# Altium footprint library COMPONENTS.PcbLib: 23 footprints (part 2 of 2)
Each footprint in its own frame and in the unit in brackets; x right, y up, seen from the top. Pads: shape width x height; smd on the part's side, far side on the other; paste and mask are expansions set on the pad; w line width, h text height; cw(c..) or ccw(c..) is an arc to the next point about the centre after c.
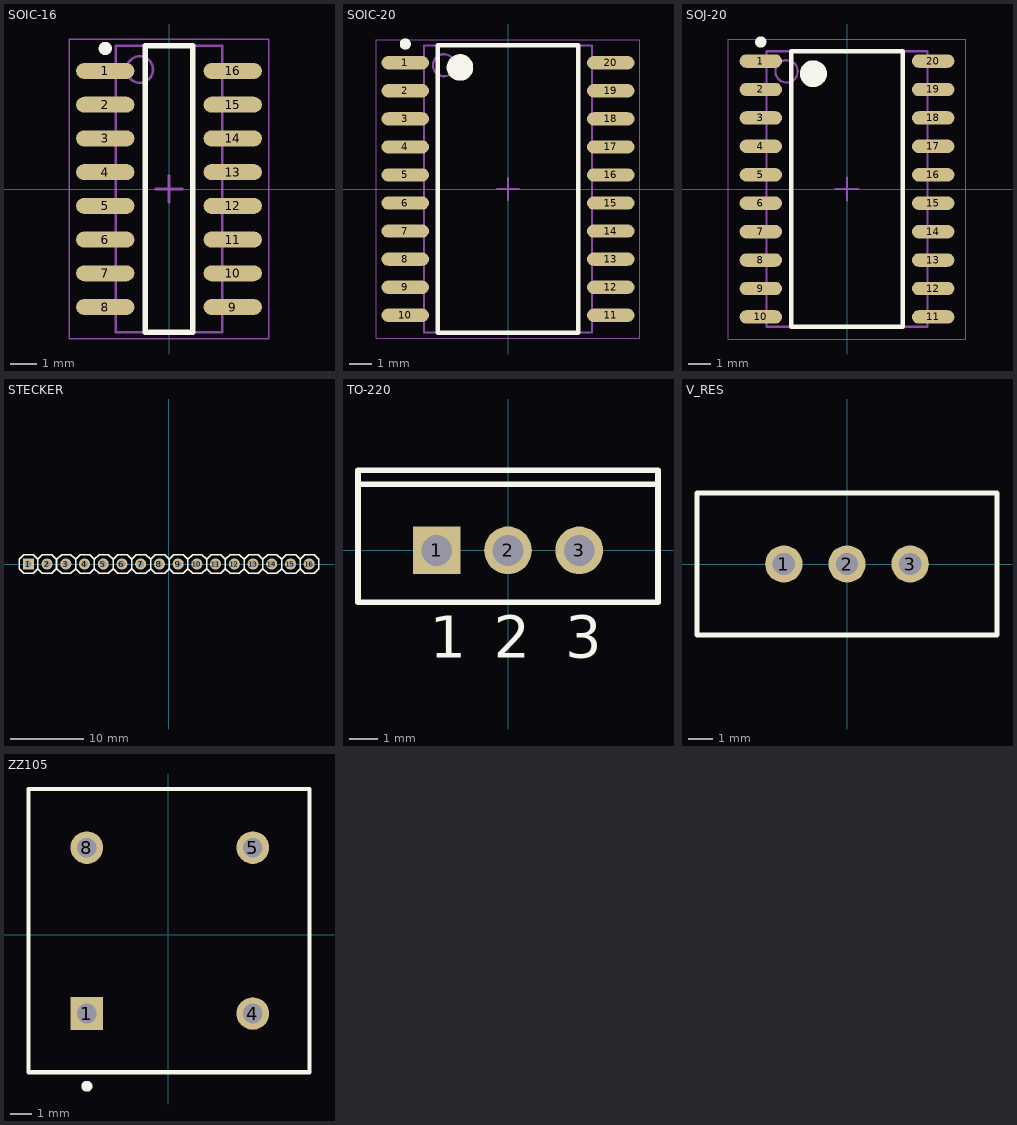
[diagram p1: the footprints below, top view; thin cyan lines are the x and y axes]

## SOIC-16 [mm] "SOIC, 16-Leads, Body 10,40x3,90mm, Pitch 1,27mm, IPC Medium Density"
height 1.75
pads (16):
  oval 2.2x0.6 smd: 1(-2.4,4.445) 2(-2.4,3.175) 3(-2.4,1.905) 4(-2.4,0.635) 5(-2.4,-0.635) 6(-2.4,-1.905) 7(-2.4,-3.175) 8(-2.4,-4.445) 9(2.4,-4.445) 10(2.4,-3.175) 11(2.4,-1.905) 12(2.4,-0.635) 13(2.4,0.635) 14(2.4,1.905) 15(2.4,3.175) 16(2.4,4.445)
Top Overlay:
  circle w0.25: c-2.4,5.295 r0.125
  lines w0.2: -0.9,-5.4 0.9,-5.4 0.9,5.4 -0.9,5.4 -0.9,-5.4
Mechanical 13:
  circle w0.1: c-1.1,4.5 r0.5
  lines w0.1: -2,-5.4 2,-5.4 2,5.4 -2,5.4 -2,-5.4
Mechanical 15:
  lines w0.05: -3.75,-5.65 3.75,-5.65 3.75,5.65 -3.75,5.65 -3.75,-5.65
  lines w0.1: -0.5,0 0.5,0 ; 0,-0.5 0,0.5
3D body: height 1.75, standoff 0.25, extent -2,-5.4 2,5.4

## SOIC-20 [mm] "SOIC, 20-Leads, Body 12,80x7,50mm, Pitch 1,27mm, IPC Medium Density"
height 2.65
pads (20):
  oval 2.15x0.6 smd: 1(-4.65,5.715) 2(-4.65,4.445) 3(-4.65,3.175) 4(-4.65,1.905) 5(-4.65,0.635) 6(-4.65,-0.635) 7(-4.65,-1.905) 8(-4.65,-3.175) 9(-4.65,-4.445) 10(-4.65,-5.715) 11(4.65,-5.715) 12(4.65,-4.445) 13(4.65,-3.175) 14(4.65,-1.905) 15(4.65,-0.635) 16(4.65,0.635) 17(4.65,1.905) 18(4.65,3.175) 19(4.65,4.445) 20(4.65,5.715)
Top Overlay:
  circle w0.25: c-4.65,6.565 r0.125
  circle w0.6: c-2.175,5.5 r0.3
  lines w0.2: -3.175,-6.5 -3.175,6.5 3.175,6.5 3.175,-6.5 -3.175,-6.5
Mechanical 13:
  circle w0.1: c-2.9,5.6 r0.5
  lines w0.1: -3.8,-6.5 -3.8,6.5 3.8,6.5 3.8,-6.5 -3.8,-6.5
Mechanical 15:
  lines w0.05: -5.975,-6.75 -5.975,6.75 5.975,6.75 5.975,-6.75 -5.975,-6.75
  lines w0.1: -0.5,0 0.5,0 ; 0,-0.5 0,0.5
3D body: height 2.65, standoff 0.25, extent -3.8,-6.5 3.8,6.5

## SOJ-20 [mm] "SOJ, 20-Leads, Body 12,31x8,16mm, Pitch 1,27mm, IPC Low Density"
height 3.36
pads (20):
  oval 1.9x0.6 smd: 1(-3.85,5.715) 2(-3.85,4.445) 3(-3.85,3.175) 4(-3.85,1.905) 5(-3.85,0.635) 6(-3.85,-0.635) 7(-3.85,-1.905) 8(-3.85,-3.175) 9(-3.85,-4.445) 10(-3.85,-5.715) 11(3.85,-5.715) 12(3.85,-4.445) 13(3.85,-3.175) 14(3.85,-1.905) 15(3.85,-0.635) 16(3.85,0.635) 17(3.85,1.905) 18(3.85,3.175) 19(3.85,4.445) 20(3.85,5.715)
Top Overlay:
  circle w0.6: c-1.5,5.15 r0.3
  circle w0.25: c-3.85,6.565 r0.125
  lines w0.2: -2.5,-6.15 2.5,-6.15 2.5,6.15 -2.5,6.15 -2.5,-6.15
Mechanical 13:
  circle w0.1: c-2.7,5.255 r0.5
  lines w0.1: -3.6,-6.155 3.6,-6.155 3.6,6.155 -3.6,6.155 -3.6,-6.155
Mechanical 15:
  lines w0.05: -5.3,-6.7 5.3,-6.7 5.3,6.7 -5.3,6.7 -5.3,-6.7
  lines w0.1: -0.5,0 0.5,0 ; 0,-0.5 0,0.5
3D body: height 3.36, standoff 0.64, extent -3.6,-6.155 3.6,6.155

## STECKER [mm] "DIP; 40 Leads; Row Spacing 15.24 mm; Pitch 2.54 mm"
height 5.59
pads (16):
  rect 1.5x1.5 hole 0.9: 1(-19.05,0)
  round 1.5 hole 0.9: 2(-16.51,0) 3(-13.97,0) 4(-11.43,0) 5(-8.89,0) 6(-6.35,0) 7(-3.81,0) 8(-1.27,0) 9(1.27,0) 10(3.81,0) 11(6.35,0) 12(8.89,0) 13(11.43,0) 14(13.97,0) 15(16.51,0) 16(19.05,0)
Top Overlay:
  lines w0.2: -17.78,-0.635 -18.415,-1.27 -19.685,-1.27 -20.32,-0.635 -20.32,0.635 -19.685,1.27 -19.621,1.27 -18.415,1.27 -17.78,0.635 ; -17.78,-0.635 -17.78,0.635 ; -17.78,-0.635 -17.145,-1.27 -15.875,-1.27 -15.24,-0.635 -15.24,0.635 -15.875,1.27 -17.081,1.27 -17.145,1.27 -17.78,0.635 ; -17.78,-0.635 -17.78,0.635 ; -12.636,-0.635 -12.636,0.635 ; -12.636,-0.635 -12.002,-1.27 -10.731,-1.27 -10.096,-0.635 ; -12.636,-0.635 -13.271,-1.27 -14.541,-1.27 -15.176,-0.635 -15.176,0.635 -14.541,1.27 -14.478,1.27 -13.271,1.27 -12.636,0.635 ; -12.636,-0.635 -12.636,0.635 ; -12.636,0.635 -12.002,1.27 -11.938,1.27 -10.731,1.27 -10.096,0.635 ; -10.096,-0.635 -10.096,0.635 ; -10.096,-0.635 -9.461,-1.27 -8.191,-1.27 -7.556,-0.635 ; -10.096,-0.635 -10.096,0.635 ; -10.096,0.635 -9.461,1.27 -9.398,1.27 -8.191,1.27 -7.556,0.635 ; -7.556,-0.635 -7.556,0.635 ; -7.556,-0.635 -6.921,-1.27 -5.651,-1.27 -5.016,-0.635 ; -7.556,-0.635 -7.556,0.635 ; -7.556,0.635 -6.921,1.27 -6.858,1.27 -5.651,1.27 -5.016,0.635 ; -5.016,-0.635 -5.016,0.635 ; -5.016,-0.635 -4.381,-1.27 -3.111,-1.27 -2.476,-0.635 ; -5.016,-0.635 -5.016,0.635 ; -5.016,0.635 -4.381,1.27 -4.318,1.27 -3.111,1.27 -2.476,0.635 ; -2.476,-0.635 -2.476,0.635 ; -2.476,-0.635 -1.841,-1.27 -0.572,-1.27 0.064,-0.635 ; -2.476,-0.635 -2.476,0.635 ; -2.476,0.635 -1.841,1.27 -1.778,1.27 -0.572,1.27 0.064,0.635 ; 0.064,-0.635 0.064,0.635 ; 0.064,-0.635 0.699,-1.27 1.968,-1.27 2.603,-0.635 ; 0.064,-0.635 0.064,0.635 ; 0.064,0.635 0.699,1.27 0.762,1.27 1.968,1.27 2.603,0.635 ; 2.603,-0.635 2.603,0.635 ; 2.603,-0.635 3.238,-1.27 4.508,-1.27 5.143,-0.635 ; 2.603,-0.635 2.603,0.635 ; 2.603,0.635 3.238,1.27 3.302,1.27 4.508,1.27 5.143,0.635 ; 5.143,-0.635 5.143,0.635 ; 5.143,-0.635 5.779,-1.27 7.048,-1.27 7.683,-0.635 ; 5.143,-0.635 5.143,0.635 ; 5.143,0.635 5.779,1.27 5.842,1.27 7.048,1.27 7.683,0.635 ; 7.683,-0.635 7.683,0.635 ; 7.683,-0.635 8.319,-1.27 9.588,-1.27 10.223,-0.635 ; 7.683,-0.635 7.683,0.635 ; 7.683,0.635 8.319,1.27 8.382,1.27 9.588,1.27 10.223,0.635 ; 10.223,-0.635 10.223,0.635 ; 10.223,-0.635 10.858,-1.27 12.128,-1.27 12.763,-0.635 ; 10.223,-0.635 10.223,0.635 ; 10.223,0.635 10.858,1.27 10.922,1.27 12.128,1.27 12.763,0.635 ; 12.763,-0.635 12.763,0.635 ; 12.763,-0.635 13.399,-1.27 14.668,-1.27 15.303,-0.635 ; 12.763,-0.635 12.763,0.635 ; 12.763,0.635 13.399,1.27 13.462,1.27 14.668,1.27 15.303,0.635 ; 15.303,-0.635 15.303,0.635 ; 15.303,-0.635 15.938,-1.27 17.209,-1.27 17.843,-0.635 ; 15.303,-0.635 15.303,0.635 ; 15.303,0.635 15.938,1.27 16.002,1.27 17.209,1.27 17.843,0.635 ; 17.843,-0.635 17.843,0.635 ; 17.843,-0.635 18.479,-1.27 19.748,-1.27 20.383,-0.635 20.383,0.635 19.748,1.27 18.542,1.27 18.479,1.27 17.843,0.635 ; 17.843,-0.635 17.843,0.635

## TO-220 [mm] "TO, Thru-Hole, Vertical, Heatsink Mounted; 3 In-Line Leads; Pitch 2.54 mm"
height 22.9
pads (3):
  rect 1.7x1.7 hole 1.1: 1(-2.54,0)
  round 1.7 hole 1.1: 2(0,0) 3(2.54,0)
Top Overlay:
  lines w0.2: -5.35,2.35 5.35,2.35 ; -5.35,-1.85 5.35,-1.85 5.35,2.85 -5.35,2.85 -5.35,-1.85
  text "1" at -2.79,-3.825 h1.5
  text "2" at -0.5,-3.825 h1.5
  text "3" at 2.04,-3.825 h1.5

## V_RES [mm]
pads (3):
  round 1.5 hole 0.9: 1(-2.54,0) 2(0,0) 3(2.54,0)
Top Overlay:
  lines w0.2: -6.032,-2.857 -6.032,2.794 ; -6.032,2.857 5.969,2.857 ; -5.969,-2.857 6.032,-2.857 6.032,2.857

## ZZ105 [mm] "DIP; 14 Round Pins; Row Space 7.62 mm; Pitch 2.54 mm"
height 6.6
pads (4):
  rect 1.5x1.5 hole 0.9: 1(-3.746,-3.619)
  round 1.5 hole 0.9: 4(3.873,-3.619) 5(3.873,4) 8(-3.746,4)
Top Overlay:
  circle w0.25: c-3.746,-6.96 r0.125
  lines w0.2: -6.427,-6.31 -6.427,-0.445 -6.427,6.691 6.477,6.691 6.477,-6.31 -6.427,-6.31